# Altium footprint library 662105136022.PcbLib: 1 footprints
Each footprint in its own frame and in the unit in brackets; x right, y up, seen from the top. Pads: shape width x height; smd on the part's side, far side on the other; paste and mask are expansions set on the pad; w line width, h text height; cw(c..) or ccw(c..) is an arc to the next point about the centre after c.
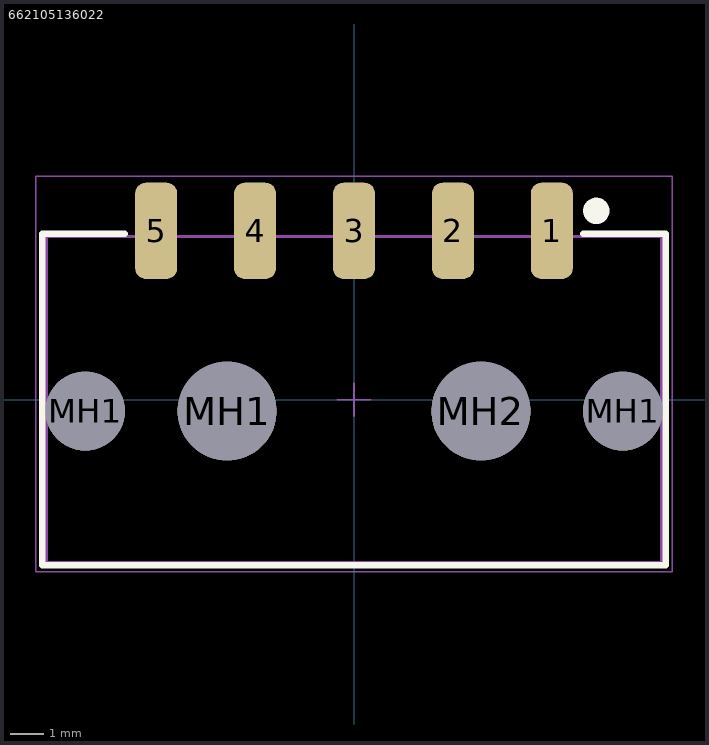
[diagram p0: the footprint, top view; thin cyan lines are the x and y axes]

## 662105136022 [mm]
pads (9):
  rrect50% 1.27x2.92 smd: 1(6,5.12) 2(3,5.12) 3(0,5.12) 4(-3,5.12) 5(-6,5.12)
  round 2.4 hole 2.4 unplated: MH1(-8.15,-0.35) MH1(8.15,-0.35)
  round 3 hole 3 unplated: MH1(-3.85,-0.35) MH2(3.85,-0.35)
Top Overlay:
  circle w0.4: c7.35,5.725 r0.2
  lines w0.2: -6.95,5.025 -9.45,5.025 -9.45,-5.025 9.45,-5.025 9.45,5.025 6.95,5.025
Top Assembly:
  lines w0.1: -9.325,-4.95 -9.325,4.95 9.325,4.95 9.325,-4.95 -9.325,-4.95
Top Courtyard:
  lines w0.05: -0.5,0 0.5,0 ; 0,-0.5 0,0.5 ; -9.65,-5.225 -9.65,6.78 9.65,6.78 9.65,-5.225 -9.65,-5.225
3D body "662105136022.stp": height 5.6, standoff -3.17, extent -9.325,-4.95 9.325,6.398